# Altium schematic symbol library ESH107M050AG3AA.SchLib: 1 symbol
Pins are listed as number, name and electrical type; pins without a type are passive.

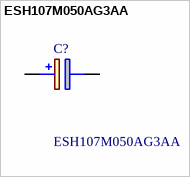
[diagram p0: symbol ESH107M050AG3AA]

## ESH107M050AG3AA
designator C?
ESH, Aluminum, Aluminum Electrolytic, 100 uF, 20%, 50 VDC, -40/+105C, 105C, -40C, 105C, 2,000 Hrs, 12 % , 0.2, 50 uA, 2, 3, 8mm, 11mm, Lead Spacing = 3.5mm, 20mm, 6000; Manufacturer_Name: KEMET; Geometry.Height: 12.5mm; Mouser Part Number: 80-ESH107M050AG3AA; Mouser Price/Stock: https://www.mouser.co.uk/ProductDetail/KEMET/ESH107M050AG3AA?qs=w9hhVRgtvflKhf%2FvUVf7oA%3D%3D; Manufacturer_Part_Number: ESH107M050AG3AA; Datasheet Link: https://content.kemet.com/datasheets/KEM_A4005_ESH.pdf
footprint CAPPRD350W60D800H1250
pins: 1 +, 2 -